# Altium footprint library HEADER.PcbLib: 5 footprints
Each footprint in its own frame and in the unit in brackets; x right, y up, seen from the top. Pads: shape width x height; smd on the part's side, far side on the other; paste and mask are expansions set on the pad; w line width, h text height; cw(c..) or ccw(c..) is an arc to the next point about the centre after c.
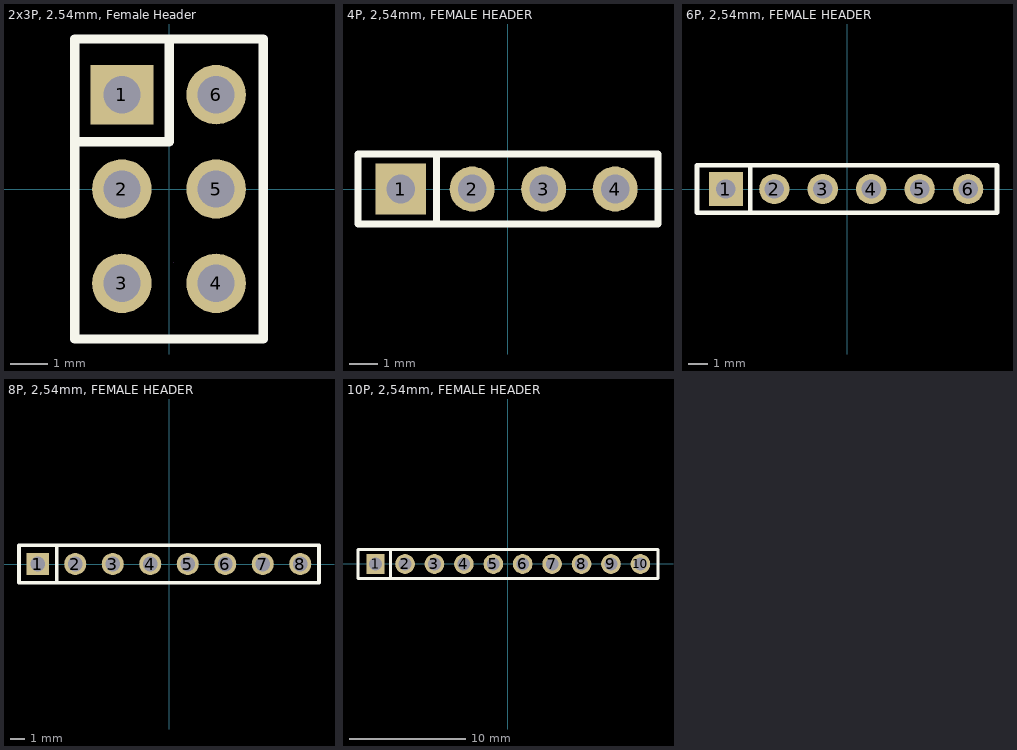
[diagram p0: the footprints below, top view; thin cyan lines are the x and y axes]

## 2x3P, 2.54mm, Female Header [mm]
pads (6):
  rect 1.7x1.6 hole 1 paste-2539.97 mask+0.051: 1(-1.27,2.54)
  round 1.6 hole 1 paste-2539.97 mask+0.051: 2(-1.27,0) 3(-1.27,-2.54) 4(1.27,-2.54) 5(1.27,0) 6(1.27,2.54)
Top Overlay:
  lines w0.254: -2.54,1.27 0.007,1.27 0.007,4.04 ; -2.54,-4.04 2.54,-4.04 2.54,4.04 -2.54,4.04 -2.54,-4.04
Mechanical 15:
  lines w0.003: 0.127,-1.968 0.127,-1.969
3D body "zl262-6d_p2-54_l8-12_w5_h8-5.stp": height 8.5, standoff -3, extent -2.5,-4.06 2.5,4.06

## 4P, 2,54mm, FEMALE HEADER [mm]
pads (4):
  rect 1.8x1.8 hole 1.02 paste-2539.97 mask+0.051: 1(-3.81,0)
  round 1.6 hole 1.02 paste-2539.97 mask+0.051: 2(-1.27,0) 3(1.27,0) 4(3.81,0)
Top Overlay:
  lines w0.254: -2.54,-1.25 -2.54,1.25 ; -5.33,-1.25 -5.33,1.25 5.334,1.25 5.334,-1.25 -5.33,-1.25
Mechanical 15:
  lines w0.003: 3.746,0.127 3.747,0.127
3D body "Female_Header_1x4_P2.54_H8.5_straight.step": height 8.5, standoff -3, extent -5.08,-1.25 5.08,1.25

## 6P, 2,54mm, FEMALE HEADER [mm]
pads (6):
  rect 1.8x1.8 hole 1.02 paste-2539.97 mask+0.051: 1(-6.35,0)
  round 1.6 hole 1.02 paste-2539.97 mask+0.051: 2(-3.81,0) 3(-1.27,0) 4(1.27,0) 5(3.81,0) 6(6.35,0)
Top Overlay:
  lines w0.254: -5.08,-1.25 -5.08,1.25 ; -7.87,-1.25 -7.87,1.25 7.87,1.25 7.87,-1.25 -7.87,-1.25
Mechanical 15:
  lines w0.003: 1.206,0.127 1.207,0.127
3D body "Female_Header_1x6_P2.54_H8.5_straight.step": height 8.5, standoff -3, extent -7.62,-1.25 7.62,1.25

## 8P, 2,54mm, FEMALE HEADER [mm]
pads (8):
  rect 1.5x1.5 hole 1 paste-2539.97 mask+0.051: 1(-8.89,0)
  round 1.5 hole 1 paste-2539.97 mask+0.051: 2(-6.35,0) 3(-3.81,0) 4(-1.27,0) 5(1.27,0) 6(3.81,0) 7(6.35,0) 8(8.89,0)
Top Overlay:
  lines w0.254: -7.596,-1.27 -7.596,1.27 ; -10.16,-1.27 -10.16,1.27 10.16,1.27 10.16,-1.27 -10.16,-1.27
Mechanical 15:
  lines w0.003: 1.333,0.127 1.334,0.127
3D body "Female_Header_1x08_P2.54_H8.5_straight.step": height 8.5, standoff -3, extent -10.16,-1.25 10.16,1.25

## 10P, 2,54mm, FEMALE HEADER [mm]
pads (10):
  rect 1.575x1.7 hole 1.1 paste-2539.97 mask+0.051: 1(-11.43,0)
  round 1.7 hole 1.1 paste-2539.97 mask+0.051: 2(-8.89,0) 3(-6.35,0) 4(-3.81,0) 5(-1.27,0) 6(1.27,0) 7(3.81,0) 8(6.35,0) 9(8.89,0) 10(11.43,0)
Top Overlay:
  lines w0.254: -10.16,-1.25 -10.16,1.25 ; -12.95,-1.25 12.95,-1.25 12.95,1.25 -12.95,1.25 -12.95,-1.25
Mechanical 15:
  lines w0.003: 1.27,0.127 1.27,0.127
3D body "Female_Header_1x10_P2.54_H8.5_straight.step": height 8.5, standoff -3, extent -12.7,-1.25 12.7,1.25